# Altium schematic symbol library PTS18126V300.SchLib: 2 symbols
Pins are listed as number, name and electrical type; pins without a type are passive.

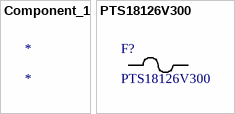
[diagram p0: symbols Component_1 to PTS18126V300]

## Component_1
designator *

## PTS18126V300
designator F?
No Description Available; Mfr_Name: Eaton; Type: DEV; Copyright: Copyright (C) 2023 Ultra Librarian. All rights reserved.; Manufacturer_Part_Number: PTS18126V300; RefDes: RefDes
footprint FUSE_PTS18126_COB
pins: 1, 2